# EAGLE library part 7408 (library MVTHS)
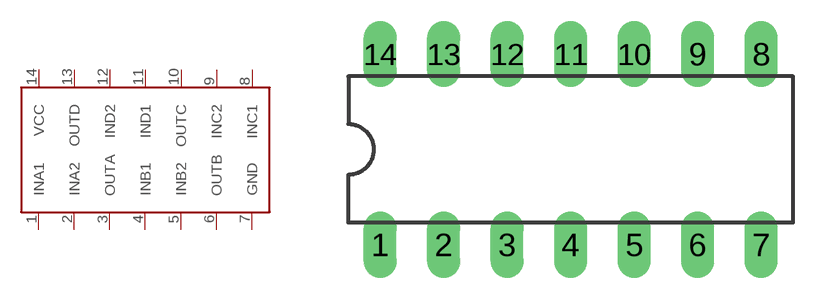
[diagram p0: symbol with the pads of DIL14; footprint DIL14]

Designator prefix -

## 7408  [DIL14]
1  INA1
2  INA2
3  OUTA
4  INB1
5  INB2
6  OUTB
7  GND
8  INC1
9  INC2
10  OUTC
11  IND1
12  IND2
13  OUTD
14  VCC

## Footprint DIL14 (pad centres in mm)
Dual In Line Package
drill 0.813 long: 1 -7.62,-3.81; 2 -5.08,-3.81; 3 -2.54,-3.81; 4 0,-3.81; 5 2.54,-3.81; 6 5.08,-3.81; 7 7.62,-3.81; 8 7.62,3.81; 9 5.08,3.81; 10 2.54,3.81; 11 0,3.81; 12 -2.54,3.81; 13 -5.08,3.81; 14 -7.62,3.81